# EAGLE library part NUF2221W1T2G (library hack)
ON SEMICONDUCTOR NUF2221W1T2G IC, FILTER, USB, ESD PROTECTION, SOT363
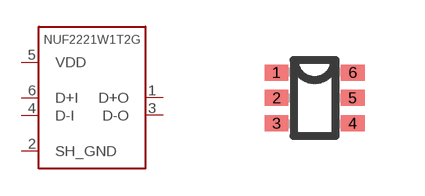
[diagram p2: symbol with the pads of SOT-363; footprint SOT-363]

Designator prefix IC

## NUF2221W1T2G  [SOT-363]
1  D+O
2  SH_GND  sup
3  D-O
4  D-I
5  VDD  pwr
6  D+I

## Footprint SOT-363 (pad centres in mm)
SOT-363 Auto generated by make-symbol-device-package-bsdl.ulp Rev. 44
smd 0.6 x 0.4: 1 -0.953,0.635; 2 -0.953,0; 3 -0.953,-0.635; 4 0.953,-0.635; 5 0.953,0; 6 0.953,0.635